# EAGLE library part CON-PHOENIX-508_MSTBA6 (library Helmet_Drop_V1.5)
PHOENIX
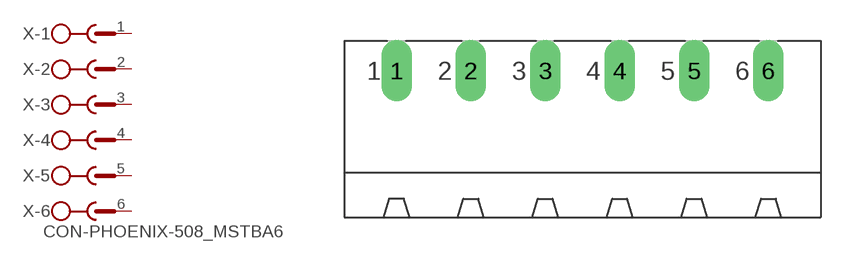
[diagram p0: symbol with the pads of CON-PHOENIX-508_MSTBA6; footprint CON-PHOENIX-508_MSTBA6]

Designator prefix X; gates -1=CON-PHOENIX-508_SK -2=CON-PHOENIX-508_SK -3=CON-PHOENIX-508_SK -4=CON-PHOENIX-508_SK -5=CON-PHOENIX-508_SK -6=CON-PHOENIX-508_SKV

## CON-PHOENIX-508_MSTBA6 (MF: FARNELL; MPN: 1757284; OC_FARNELL: 3705213; OC_NEWARK: 71C4165)  [CON-PHOENIX-508_MSTBA6]
1  -1:1  pas
2  -2:1  pas
3  -3:1  pas
4  -4:1  pas
5  -5:1  pas
6  -6:1  pas

## Footprint CON-PHOENIX-508_MSTBA6 (pad centres in mm)
PHOENIX
drill 1.397 long: 1 -12.7,5.08; 2 -7.62,5.08; 3 -2.54,5.08; 4 2.54,5.08; 5 7.62,5.08; 6 12.7,5.08